# Altium schematic symbol library Full bridge-V1.00.SCHLIB: 71 symbols
Pins are listed as number, name and electrical type; pins without a type are passive.

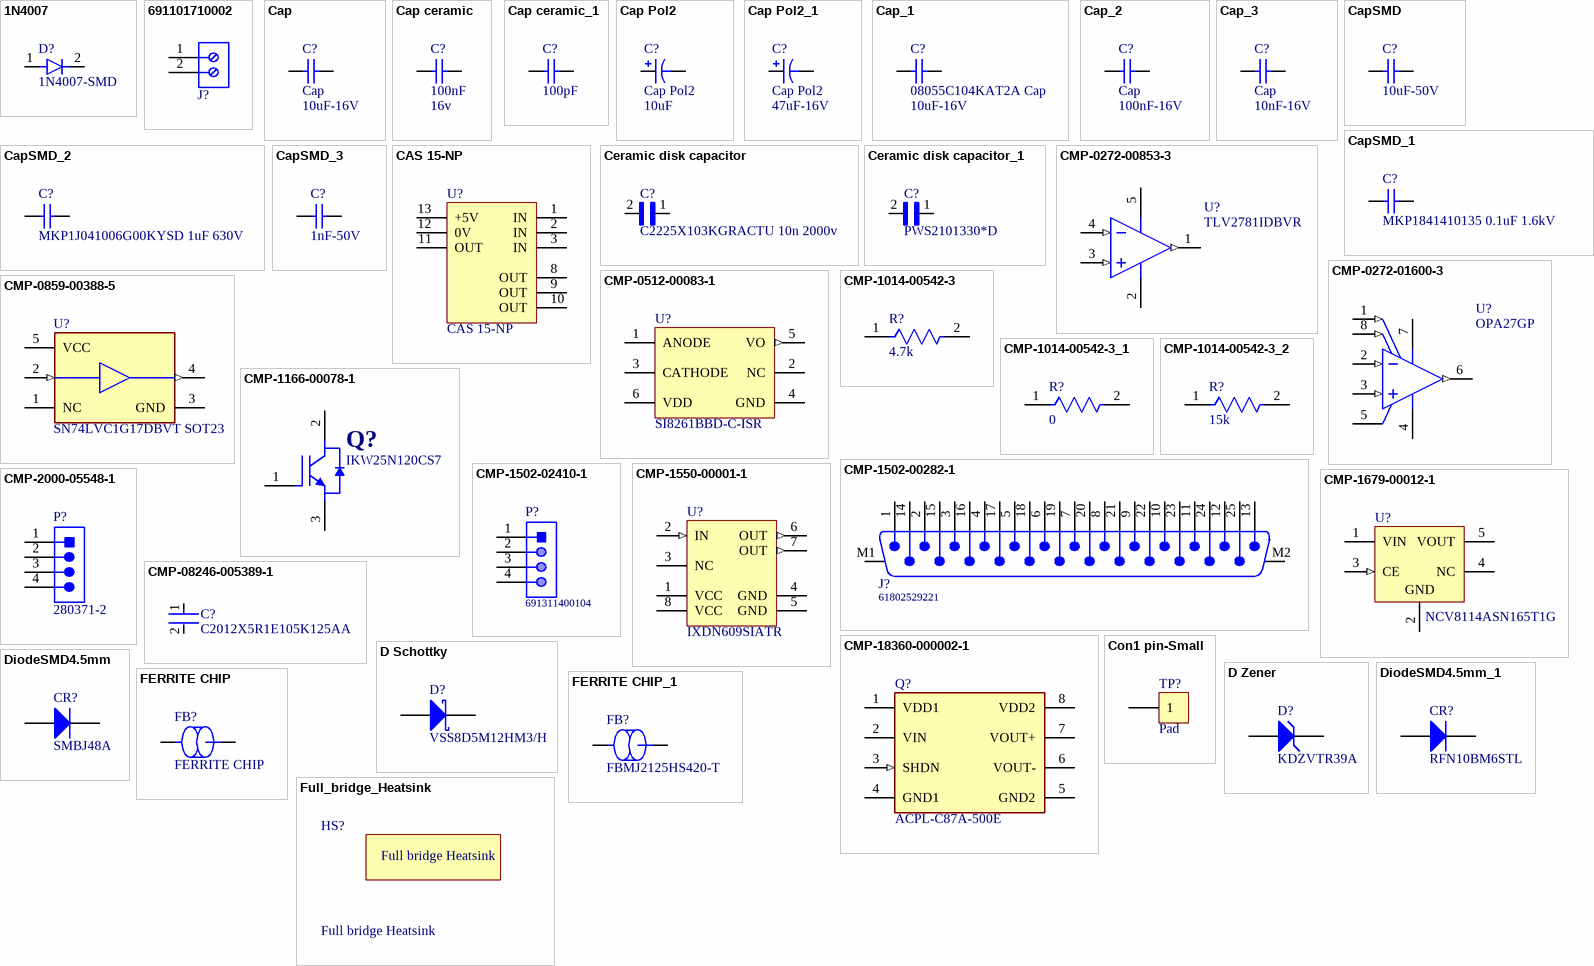
[diagram p0: symbols 1N4007 to Full_bridge_Heatsink]

## 1N4007
designator D?, comment 1N4007-SMD
Diode Standard 1000V 1A Through Hole DO-204AL _DO-41_; MF: ON Semiconductor; MP: 1N4007; Package: DO-41 Good-Ark; Value: *; Price: None; Availability: Unavailable; SnapEDA_Link: https://www.snapeda.com/parts/1N4007/ON%20Semiconductor/view-part/2816213/?ref=snap
footprint SMA (DO-214AC)
pins: 1 A, 2 C

## 691101710002
designator J?  (value not drawn)
WR-TBL Series 101 Horizontal Entry Modular, THT, pitch 5mm, 2p; Manufacturer: Wurth Elektronik; Modularity: Yes; Rated Current: 16A; Working Voltage: 250V; ComponentLink1Description: Website Link; ComponentLink1URL: https://www.we-online.com/redexpert/article/691101710002?ad; ComponentLink2Description: Datasheet Link; ComponentLink2URL: https://www.we-online.com/redexpert/spec/691101710002?ad; Manufacturer Part Number: 691101710002; Category: Terminal Blocks; Match Code: WR-TBL; Mount: Through Hole; Operating Temperature Max: 105°C; Operating Temperature Min: -40°C; Packaging: Box; Application: Pressure Clamp; Number of Pins: 2; Number of Rows: 1; Orientation: Horizontal; Pitch: 5mm
footprint 691101710002
pins: 1, 2

## Cap
designator C?  value 10uF-16V
Capacitor; Published: 8-Jun-2000; LatestRevisionDate: 17-Jul-2002; LatestRevisionNote: Re-released for DXP Platform.; PackageReference: RAD-0.3; Publisher: Altium Limited
footprint CAP 2
footprint CAP 3
footprint CAP 4.7NF 1KV
footprint CAP RAD 2
footprint SMD B
footprint C0805 (0805)
footprint SMD-CAP-0805
footprint SMD-CAP-1206
footprint SMD-CAP-1210
footprint SMD-CAP-1812
footprint SMD-CAP-5750
pins: 1, 2

## Cap ceramic
designator C?, comment Volte: 16v  (hidden comment: 100nF)
None polar capacitor; Value: 100nF
footprint My_cap100n
footprint C0805 (0805)
footprint MY_0805
footprint MY_1210
footprint MY_1310
footprint MY_1608
footprint MY_1812
footprint MY_1825
footprint MY_2012
footprint MY_2220
footprint MY_2225
footprint MY_3216
footprint MY_3225
footprint MY_4532
footprint MY_4564
footprint MY_0201
footprint MY_0402
footprint MY_0603
footprint MY_E5-7.5mm
footprint MY_E6-10mm
footprint MY_E8.4-15mm
footprint MY_2010
footprint MY_1218
footprint MY_E5-7.5mmB
pins: 1, 2

## Cap ceramic_1
designator C?, comment 100pF
None polar capacitor; Volte: 50v; Value: 100pF
footprint My_cap100n
footprint MY_1206
footprint C0805 (0805)
footprint MY_1210
footprint MY_1310
footprint MY_1608
footprint MY_1812
footprint MY_1825
footprint MY_2012
footprint MY_2220
footprint MY_2225
footprint MY_3216
footprint MY_3225
footprint MY_4532
footprint MY_4564
footprint MY_0201
footprint MY_0402
footprint MY_0603
footprint MY_E5-7.5mm
footprint MY_E6-10mm
footprint MY_E8.4-15mm
footprint MY_2010
footprint MY_1218
footprint MY_E5-7.5mmB
pins: 1, 2

## Cap Pol2
designator C?  value 10uF
Polarized Capacitor (Axial); Published: 8-Jun-2000; LatestRevisionDate: 17-Jul-2002; LatestRevisionNote: Re-released for DXP Platform.; PackageReference: POLAR0.8; Publisher: Altium Limited
footprint SMD 1812
footprint CAPAE430X565N
footprint SMD C1206
footprint SMD C2225
footprint cap 1
footprint CAP 2.2uF-450v
footprint CAP 1000u50v
footprint cap 220uf 50v
footprint CAP 470u 35v
footprint SMD B
pins: 1, 2
1 alternate drawing of the same symbol

## Cap Pol2_1
designator C?, comment Cap Pol2  value 47uF-16V
Polarized Capacitor (Axial); Published: 8-Jun-2000; LatestRevisionDate: 17-Jul-2002; LatestRevisionNote: Re-released for DXP Platform.; PackageReference: POLAR0.8; Publisher: Altium Limited
footprint SMD 1812
footprint CAPAE430X565N
footprint SMD C1206
footprint SMD C2225
footprint cap 1
footprint CAP 2.2uF-450v
footprint CAP 1000u50v
footprint cap 220uf 50v
footprint CAP 470u 35v
footprint SMD B
pins: 1, 2
1 alternate drawing of the same symbol

## Cap_1
designator C?, comment 08055C104KAT2A Cap  value 10uF-16V
Capacitor; Published: 8-Jun-2000; LatestRevisionDate: 17-Jul-2002; LatestRevisionNote: Re-released for DXP Platform.; PackageReference: RAD-0.3; Publisher: Altium Limited
footprint CAP 2
footprint CAP 3
footprint CAP 4.7NF 1KV
footprint CAP RAD 2
footprint SMD B
footprint C0805 (0805)
footprint SMD-CAP-0805
footprint SMD-CAP-1206
footprint SMD-CAP-1210
footprint SMD-CAP-1812
footprint SMD-CAP-5750
pins: 1, 2

## Cap_2
designator C?, comment Cap  value 100nF-16V
Capacitor; Published: 8-Jun-2000; LatestRevisionDate: 17-Jul-2002; LatestRevisionNote: Re-released for DXP Platform.; PackageReference: RAD-0.3; Publisher: Altium Limited
footprint CAP 2
footprint CAP 3
footprint CAP 4.7NF 1KV
footprint CAP RAD 2
footprint SMD B
footprint C0805 (0805)
footprint SMD-CAP-0805
footprint SMD-CAP-1206
footprint SMD-CAP-1210
footprint SMD-CAP-1812
footprint SMD-CAP-5750
pins: 1, 2

## Cap_3
designator C?, comment Cap  value 10nF-16V
Capacitor; Published: 8-Jun-2000; LatestRevisionDate: 17-Jul-2002; LatestRevisionNote: Re-released for DXP Platform.; PackageReference: RAD-0.3; Publisher: Altium Limited
footprint CAP 2
footprint CAP 3
footprint CAP 4.7NF 1KV
footprint CAP RAD 2
footprint SMD B
footprint C0805 (0805)
footprint SMD-CAP-0805
footprint SMD-CAP-1206
footprint SMD-CAP-1210
footprint SMD-CAP-1812
footprint SMD-CAP-5750
pins: 1, 2

## CapSMD
designator C?, comment 10uF-50V
footprint CapSMD-805
footprint CapSMD-1206
footprint CAPSMD-603
footprint CapSMD-1210
footprint CapSMD-1812
footprint C0805 (0805)
pins: 1, 2

## CapSMD_1
designator C?, comment MKP1841410135 0.1uF 1.6kV
footprint MKP1841410135
pins: 1, 2

## CapSMD_2
designator C?, comment MKP1J041006G00KYSD 1uF 630V
footprint MKP10_31x17-P27.5mm
pins: 1, 2

## CapSMD_3
designator C?, comment 1nF-50V
footprint CapSMD-805
footprint C0805 (0805)
pins: 1, 2

## CAS 15-NP
designator U?
Current Transducer, 5 V, -40 to 85 degC, 10-Pin THD, RoHS, Tray; Manufacturer: LEM; PartNumber: LTSR 15-NP; IP: 250 At; IPN: 15 At; G: 41.6 mV/A; VC: 5 V; CL: 500 pF Max.; Mounting Technology: Through Hole; ComponentLink1URL: http://www.lem.com/; ComponentLink3Description: Package Specification; DatasheetVersion: Feb-11; Packing: Tray; PackageDescription: 10-Pin THD, Body 22.2 x 9.3 mm, Height 24 mm; ComponentLink1Description: Manufacturer URL; ComponentLink3URL: http://www.lem.com/docs/products/ltsr%2015-np.pdf; Operating Temperature Range: -40 to 85 degC; ComponentLink2Description: Datasheet; ComponentLink2URL: http://www.lem.com/docs/products/ltsr%2015-np.pdf
footprint CAS 15-NP
pins: 1 IN, 2 IN, 3 IN, 8 OUT, 9 OUT, 10 OUT, 11 OUT, 12 0V, 13 +5V

## Ceramic disk capacitor
designator C?, comment C2225X103KGRACTU 10n 2000v
MF: AVX; MP: LD052C153JAB2A; Price: None; SnapEDA_Link: https://www.snapeda.com/parts/LD052C153JAB2A/AVX/view-part/2034833/?ref=snap; Package: 0805 AVX; Availability: Warning; Value: *
footprint C2225
pins: 1, 2

## Ceramic disk capacitor_1
designator C?, comment PWS2101330*D
MF: AVX; MP: LD052C153JAB2A; Price: None; SnapEDA_Link: https://www.snapeda.com/parts/LD052C153JAB2A/AVX/view-part/2034833/?ref=snap; Package: 0805 AVX; Availability: Warning; Value: *
footprint PWS2101330KD
pins: 1, 2

## CMP-0272-00853-3
designator U?, comment TLV2781IDBVR
Precision, 20 MHz, 0.9 pA Ib, RRIO, CMOS Operational Amplifier, 1.8 to 5.5 V, -40 to 125 degC, 5-pin SOT23 (DBV5), Green (RoHS & no Sb/Br); PartNumber: OPA320AIDBVR; Manufacturer: Texas Instruments; Vio (25C)(Max)(mV): 0.15; Number of Channels: 2; Slew Rate(Typ)(V/us): 10; CMRR(Min)(dB): 100; Sub Family: High Output Current Amplifier (>=50mA), Low Input Bias Current Amp (<=10pA), Low Noise Amp (<=10nV/rtHz), Low Offset Voltage Amplifier (<=500uV), Low Supply Voltage Amplifier (<=2.7V), Precision Amplifier; Total Supply Voltage(Min)(+5V is 5, +/-5V is 10): 1.8; Iq per channel(Max)(mA): 1.75; Vn at 1kHz(Typ)(nV/rtHz): 8.5; Offset Drift(Typ)(uV/C): 1.5; IIB(Max)(pA): 0.9; Total Supply Voltage(Max)(+5V is 5, +/-5V is 10): 5.5; PackageVersion: 4073253-4/K, 03/2006; Code_JEDEC: MO-178; ComponentLink2Description: Datasheet; PackageDescription: 5-Pin Plastic Small Outline, Body 1.6 x 2.9 mm, Pitch 0.95 mm; Eco-Plan: Green (RoHS & no Sb/Br); ComponentLink1Description: Manufacturer URL; Mounting Technology: Surface Mount; ComponentLink3Description: Package Specification; ComponentLink3URL: http://www.ti.com/litv/pdf/mpds018i; PackageReference: DBV0005A; ComponentLink2URL: http://www.ti.com/general/docs/lit/getliterature.tsp?genericPartNumber=OPA320&fileType=pdf; DatasheetVersion: SBOS513D; ComponentLink1URL: http://www.ti.com/
footprint DBV0005A_L (SOT23, 5-Leads, Body 3.05x1.75mm, Pitch 0.95mm, IPC High Density)
footprint DBV0005A_N (SOT23, 5-Leads, Body 3.05x1.75mm, Pitch 0.95mm, IPC Medium Density)
footprint DBV0005A_M (SOT23, 5-Leads, Body 3.05x1.75mm, Pitch 0.95mm, IPC Low Density)
pins: 1 OUT (out), 2 V- (power), 3 IN+ (in), 4 IN- (in), 5 V+ (power)

## CMP-0272-01600-3
designator U?, comment OPA27GP
Ultra-Low Noise Precision Operational Amplifier, 8 to 44 V, -40 to 85 degC, 8-pin DIP (P8), Green (RoHS & no Sb/Br); Manufacturer: Texas Instruments; Total Supply Voltage(Max)(+5V is 5, +/-5V is 10): 44; Total Supply Voltage(Min)(+5V is 5, +/-5V is 10): 8; CMRR(Min)(dB): 100; Number of Channels: 1; Slew Rate(Typ)(V/us): 1.9; Packing: TUBE; Iq per channel(Max)(mA): 5.7; Sub Family: High Supply Voltage Amplifier (>=30V), Low Noise Amp (<=10nV/rtHz), Low Offset Voltage Amplifier (<=500uV), Precision Amplifier; Vio (25C)(Max)(mV): 0.1; IIB(Max)(pA): 80000; Offset Drift(Typ)(uV/C): 0.4; Rating: Catalog; PackageReference: P0008A; ComponentLink2Description: Datasheet; ComponentLink3URL: http://www.ti.com/litv/pdf/mpdi001b; PackageVersion: 4040082/E, 04/2010; ComponentLink3Description: Package Specification; ComponentLink1URL: http://www.ti.com/; Eco-Plan: Green (RoHS & no Sb/Br); Mounting Technology: Through Hole; ComponentLink1Description: Manufacturer URL; PackageDescription: 8-Pin Plastic In-Line, Body 9.59 x 6.35 mm, Pitch 2.54 mm; PartNumber: OPA27GP; Code_JEDEC: MS-001; ComponentLink2URL: http://www.ti.com/lit/ds/symlink/opa27.pdf; DatasheetVersion: SBOS135C; GBW(Typ)(MHz): 8
footprint P0008A (DIP, 8-Leads, Body 10.15x6.6mm, Pitch 2.54mm)
pins: 1 OFFSET TRIM (in), 2 IN- (in), 3 IN+ (in), 4 VCC- (power), 5 NC, 6 OUT (out), 7 VCC+ (power), 8 OFFSET TRIM (in)

## CMP-0512-00083-1
designator U?, comment SI8261BBD-C-ISR
Led Emulator Input, 4.0 A Isolated Gate Drivers, 5 to 30 V Driver Supply, 5 kVRMS Isolation Rating, -40 to 125 degC, 6-pin SOP; Manufacturer: Silicon Labs; Overlap Protection & Dead Time Control: FALSE; Max. Prop. Delay (ns): 60; Sub-Family: ISOdrivers; Isolation Rating (Input-Output, kVrms): 5; UVLO Voltage: 8 V; 10kV surge: TRUE; Driver Supply: 5 to 30 V; ComponentLink2URL: http://www.silabs.com/Support%20Documents/TechnicalDocs/Si826x.pdf; PackageDescription: 6-Pin SDIP, Body 4.58 x 7.5 mm, Pitch 1.27 mm; ComponentLink3Description: Package Specification; Mounting Technology: Surface Mount; DatasheetVersion: Rev. 0.9; PartNumber: Si8261BBD-C-IS; ComponentLink2Description: Datasheet; ComponentLink1URL: http://www.silabs.com/; PackageReference: SDIP6; ComponentLink1Description: Manufacturer URL; ComponentLink3URL: http://www.silabs.com/Support%20Documents/TechnicalDocs/Si826x.pdf
footprint SLAB-SDIP6_N (SOP, 6-Leads, Body 7.5x4.58mm, Pitch 1.27mm, IPC Medium Density)
footprint SLAB-SDIP6_L (SOP, 6-Leads, Body 7.5x4.58mm, Pitch 1.27mm, IPC High Density)
footprint SLAB-SDIP6_M (SOP, 6-Leads, Body 7.5x4.58mm, Pitch 1.27mm, IPC Low Density)
pins: 1 ANODE "Anode of LED emulator. VO follows the signal applied to this input with respect to the CATHODE input.", 2 NC "No connect.", 3 CATHODE "Cathode of LED emulator. VO follows the signal applied to ANODE with respect to this input.", 4 GND (power) "External MOSFET source connection and ground reference for VDD. This terminal is typically connected to ground but may be tied to a negative or positive voltage.", 5 VO (out) "Output signal.", 6 VDD (power) "Output-side power supply input referenced to GND (30 V max)."

## CMP-0859-00388-5
designator U?, comment SN74LVC1G17DBVT SOT23
IC BUF NON-INVERT 5.5V SC70-5; Number of Elements: 1; Polarity: Non-Inverting; Low Level Output Current: 32mA; Propagation Delay: 11ns; Logic Function: Schmitt Trigger; Min Supply Voltage: 1.65V; Quiescent Current: 1.5uA; High Level Output Current: -32mA; Packaging: Tape and Reel; Number of Gates: 1; Number of Output Lines: 1; Package Quantity: 1; Radiation Hardening: No; Max Supply Voltage: 5.5V; Contact Plating: Gold; Number of Outputs: 1; Number of Channels: 1; Termination: SMD/SMT; REACH SVHC: No SVHC; Number of Inputs: 1; Turn-On Delay Time: 11ns; Min Operating Temperature: -40°C; Number of Bits: 1; Number of Input Lines: 1; Number of Bits per Element: 1; Case/Package: SC; Number of Pins: 5; Mount: Surface Mount; Lead Free: Lead Free; Max Operating Temperature: 125°C
footprint FP-DCK0005A-MFG
footprint FP-DCK0005A-IPC_B
footprint SOT95P280X145-5N
footprint FP-DCK0005A-IPC_A
pins: 1 NC, 2 A (in), 3 GND (power), 4 Y (out), 5 VCC (power)

## CMP-1014-00542-3
designator R?, comment 4.7k
RES Thick Film, 2kΩ, 1%, 0.25W, 100ppm/°C, 1206; Max Power Dissipation: 250mW; Voltage Rating: 200V; Resistance: 2kR; Package Quantity: 10; Height: 0.55mm; Tolerance: 1%; Number of Terminations: 2; Mount: Surface Mount; Width: 1.6mm; Length: 3.2mm; Features: Automotive AEC-Q200; Contact Plating: Tin; Number of Pins: 2; Weight: 0.000353oz; Max Operating Temperature: 155°C; Min Operating Temperature: -55°C; Termination: SMD/SMT; Temperature Coefficient: 100ppm/°C; Case Code (Imperial): 1206; Depth: 1.6mm; Military Standard: Not; Case Code (Metric): 3216; Composition: Thick Film; Power Rating: 250mW; Case/Package: 1206; Radiation Hardening: No; Packaging: Tape and Reel
footprint R0805 (0805)
footprint FP-CRCW1206-e3-IPC_C
footprint FP-CRCW1206-e3-IPC_B
footprint FP-CRCW1206-e3-MFG
pins: 1, 2

## CMP-1014-00542-3_1
designator R?, comment 0
RES Thick Film, 2kΩ, 1%, 0.25W, 100ppm/°C, 1206; Max Power Dissipation: 250mW; Voltage Rating: 200V; Resistance: 2kR; Package Quantity: 10; Height: 0.55mm; Tolerance: 1%; Number of Terminations: 2; Mount: Surface Mount; Width: 1.6mm; Length: 3.2mm; Features: Automotive AEC-Q200; Contact Plating: Tin; Number of Pins: 2; Weight: 0.000353oz; Max Operating Temperature: 155°C; Min Operating Temperature: -55°C; Termination: SMD/SMT; Temperature Coefficient: 100ppm/°C; Case Code (Imperial): 1206; Depth: 1.6mm; Military Standard: Not; Case Code (Metric): 3216; Composition: Thick Film; Power Rating: 250mW; Case/Package: 1206; Radiation Hardening: No; Packaging: Tape and Reel
footprint R0603 (0603)
footprint FP-CRCW1206-e3-IPC_C
footprint FP-CRCW1206-e3-IPC_B
footprint FP-CRCW1206-e3-MFG
pins: 1, 2

## CMP-1014-00542-3_2
designator R?, comment 15k
RES Thick Film, 2kΩ, 1%, 0.25W, 100ppm/°C, 1206; Max Power Dissipation: 250mW; Voltage Rating: 200V; Resistance: 2kR; Package Quantity: 10; Height: 0.55mm; Tolerance: 1%; Number of Terminations: 2; Mount: Surface Mount; Width: 1.6mm; Length: 3.2mm; Features: Automotive AEC-Q200; Contact Plating: Tin; Number of Pins: 2; Weight: 0.000353oz; Max Operating Temperature: 155°C; Min Operating Temperature: -55°C; Termination: SMD/SMT; Temperature Coefficient: 100ppm/°C; Case Code (Imperial): 1206; Depth: 1.6mm; Military Standard: Not; Case Code (Metric): 3216; Composition: Thick Film; Power Rating: 250mW; Case/Package: 1206; Radiation Hardening: No; Packaging: Tape and Reel
footprint R0603 (0603)
footprint FP-CRCW1206-e3-IPC_C
footprint FP-CRCW1206-e3-IPC_B
footprint FP-CRCW1206-e3-MFG
pins: 1, 2

## CMP-1166-00078-1
designator Q?, comment IKW25N120CS7
1200 V IGBT in Trench and Fieldstop Technology with Soft, Fast Recovery Anti-Parallel Diode, 80 A IC, -40 to 175 degC, PG-TO247-3-44, Tube, Green; Manufacturer: Infineon; PartNumber: IKW40N120H3; Green: TRUE; IF (max): 40 A; Eoff (typ): 1.2Â mJ; VCE(sat) (typ): 2.05Â V; VF (typ): 2.4 V; QGate (typ): 185 nC; Switching Frequency: HighSpeed3 20-100kHz; tf (typ): 16Â ns; ICpuls (max): 160 A; Eon (typ): 3.2 mJ; IC(max) @ 100degrees: 40Â A; tr (typ): 57 ns; td(off) (typ): 290 ns; IC(max) @ 25degrees: 80Â A; Qrr (typ): 1.9 uC; VCE (max): 1,200Â V; td(on) (typ): 30 ns; Irrm (typ): 12.8 A; DatasheetVersion: Rev. 1.2; ComponentLink1Description: Manufacturer URL; PackageDescription: 3-Pin Plastic (Green) Transistor Single Outline Package, 15.94 x 20.95 mm Body, 5.44 mm Pitch; ComponentLink2URL: http://www.infineon.com/dgdl/IKW40N120H3_Rev1_2G.pdf?folderId=db3a30431c69a49d011c6f86019b00a1&fileId=db3a304325305e6d012591d4832f7032; ComponentLink2Description: Datasheet; ComponentLink3URL: http://www.infineon.com/cms/packages/Leaded_and_through-hole/P-PG-TO247/P-PG-TO247-3-44.html?__locale=en; ComponentLink1URL: http://www.infineon.com/; ComponentLink3Description: Package Specification; IFpuls (max): 160 A; Packing: Tube; Mounting Technology: Through Hole; PackageReference: PG-TO247-3-44; PackageVersion: Rev. 03; Halogen-free: available
footprint PG-TO247-3
pins: 1 G, 2 C, 3 E

## CMP-1502-00282-1
designator J?, comment 61802529221
Male PCB Connector with Hex Screw WR-DSUB, Vertical, 25 pins; Manufacturer: Wurth Elektronik; Working Voltage: 125VAC; Contact Resistance: 30mOhm; Rated Current: 3A; Pin Number: 25; Publisher: WurthElektronik; Gender: Male; Orientation: Vertical; Operating Temperature: -40to85degC; Datasheet URL: https://katalog.we-online.de/em/datasheet/6180xx29221.pdf; Package Reference: 61802529221; Packaging: Tray; Mounting Technology: THT; Part Number: 61802529221; Manufacturer URL: http://www.we-online.de
footprint 61802525123
pins: 1, 2, 3, 4, 5, 6, 7, 8, 9, 10, 11, 12, 13, 14, 15, 16, 17, 18, 19, 20, 21, 22, 23, 24, 25, M1, M2

## CMP-1502-02410-1
designator P?, comment 691311400104
Serie 3114 - 7.62mm Close Vertical PCB Header WR-TBL, 4 pin; Manufacturer: Wurth Elektronik; Gender: Male; Pin Number: 4; Packaging: Box; Datasheet URL: http://katalog.we-online.de/em/datasheet/6913114001xx.pdf; Operating Temperature: -40to105degC; Package Reference: 691311400104; Mounting Technology: THT; Publisher: WurthElektronik; Pitch: 7.62mm; Manufacturer URL: http://www.we-online.de; Part Number: 691311400104
footprint 691311400104
pins: 1, 2, 3, 4

## CMP-1550-00001-1
designator U?, comment IXDN609SIATR
9-Ampere Low-Side Ultrafast MOSFET Driver, 4.5 to 35 V, 200 KOhm, -40 to 125 degC, 8-Pin SOIC (SI), RoHS, Tube; Number of Configurations: 1; VCC Max: 35 V; VCC Min: 4.5 V; ComponentLink1Description: Manufacturer URL; Temperature Max: 125 degC; Packing: Tube; RoHS: TRUE; REN Typ: 200 kOhm; ComponentLink2URL: http://www.ixysic.com/home/pdfs.nsf/www/IXD_609.pdf/$file/IXD_609.pdf; ComponentLink3Description: Package Specification; Number of Outputs: 1; ComponentLink1URL: http://www.ixys.com/; ComponentLink2Description: Datasheet; PackageDescription: 8-Pin Small Outline Integrated Circuit Package, Body 4.928 x 3.937 mm, Pitch 1.27 mm; Mounting Technology: Surface Mount; PartNumber: IXDN609SI; Temperature Min: -40 degC; ComponentLink3URL: http://www.ixysic.com/home/pdfs.nsf/www/IXD_609.pdf/$file/IXD_609.pdf
footprint IXDN609SIATR
pins: 1 VCC (power) "Supply Voltage - Provides power to the device", 2 IN (in) "Logic Input", 3 NC "Not connected", 4 GND (power) "Ground - Common ground reference for the device", 5 GND (power) "Ground - Common ground reference for the device", 6 OUT (out) "Output - Sources or sinks current to turn-on or turn-off a discrete MOSFET or IGBT", 7 OUT (out) "Output - Sources or sinks current to turn-on or turn-off a discrete MOSFET or IGBT", 8 VCC (power) "Supply Voltage - Provides power to the device"

## CMP-1679-00012-1
designator U?, comment NCV8114ASN165T1G
Low Noise Low Drop Out (LDO) Linear Voltage Regulator, 3.3 V Output Voltage, 150 mA, -40 to 85 degC, 5-Pin SOT-23 (1212-01), Pb-Free, Tape and Reel; ComponentLink2Description: Datasheet; PackageDescription: 5-Pin Small Outline Transistor, Body 2.9 x 1.65 mm, Pitch 0.95 mm; ComponentLink1Description: Manufacturer URL; DatasheetVersion: Rev. 6, 06/2005; ComponentLink2URL: http://www.onsemi.com/pub_link/Collateral/MC78PC00-D.PDF; ComponentLink1URL: http://www.onsemi.com/; PackageReference: SOT-23-5-1212-01_O
footprint TSOP-5
pins: 1 VIN (power) "Input Pin", 2 GND (power) "Ground Pin", 3 CE (in) "Chip Enable Pin", 4 NC "No Connection", 5 VOUT (power) "Output Pin"

## CMP-2000-05548-1
designator P?, comment 280371-2
Male Header, Pitch 2.54 mm, 1 x 4 Position, Height 12.8 mm, Tail Length 3.5 mm, -55 to 105 degC, RoHS, Bulk; Manufacturer: TE Connectivity; Pitch: 0.100"(2.54mm); Connector Type: Header,Shrouded; Other Names: 280371-2-ND / A106401; Number of Positions Loaded: All; Dynamic Catalog: AMPMODUModIISeries; Number of Positions: 4; 3D Model: 280371-2.pdf; Termination: Solder; Package Description: Male Header, Pitch 2.54 mm, 1 x 4 Position, Height 12.8 mm, Tail Length 3.5 mm; Datasheet Version: Rev. M1, 08/2016; Contact Mating Length: 0.260"(6.60mm); Datasheet URL: http://www.te.com/commerce/DocumentDelivery/DDEController?Action=showdoc&DocId=Customer+Drawing%7F280370%7FM1%7Fpdf%7FEnglish%7FENG_CD_280370_M1.pdf%7F280371-2; Mounting Technology: ThroughHole; Standard Package: 1,000; Contact Finish Thickness: 15µin(0.38µm); Contact Finish: Gold; Contact Type: MalePin; Packaging: Bulk; Mounting Type: ThroughHole; Number of Rows: 1; Family: RectangularConnectors-Headers,MalePins; Manufacturer URL: http://www.te.com/; Color: Black; RoHS Information: 280371-2StatementofCompliance; Package Reference: 280371-2; Category: Connectors,Interconnects; Series: AMPMODUModII
footprint TECO-280371-2_V (Male Header, 4-Leads, Body 12.7x5mm, Pitch 2.54)
pins: 1, 2, 3, 4

## CMP-08246-005389-1
designator C?, comment C2012X5R1E105K125AA
Multilayer Ceramic Capacitors 1μF ±10% 25V X5R SMD 0805; Capacitance: 1uF; Min Operating Temperature: -55°C; Construction: Flat; Package Quantity: 2000; Height: 1.25mm; Resistor Type: Ceramic; Case/Package: 0805; Depth: 1.25mm; Case Code (Metric): 2012; Weight: 0.000194oz; REACH SVHC: No SVHC; Dielectric: X5R; Max Operating Temperature: 85°C; Number of Pins: 2; Thickness: 0.057inch; RoHS Compliant: Yes; Radiation Hardening: No; Lead Free: Lead Free; Case Code (Imperial): 0805; Length: 2mm; Voltage Rating: 25V; Mount: Surface Mount; Voltage Rating (DC): 25V; Packaging: Tape and Reel; Dielectric Material: Ceramic; Termination: SMD/SMT; Voltage: 25V; Tolerance: 10%; Series: C; Width: 0.049inch
footprint C0805 (0805)
footprint FP-C2012-125-0_2-MFG
footprint FP-C2012-125-0_2-IPC_C
footprint FP-C2012-125-0_2-IPC_B
pins: 1, 2

## CMP-18360-000002-1
designator Q?, comment ACPL-C87A-500E
IC OPAMP ISOLATION 100KHZ 8SO; Turn-On Delay Time: 6500ns; Number of Circuits: 1; Forward Current: 230mA; Max Supply Voltage: 5.5V; Min Supply Voltage: 4.5V; Operating Supply Voltage: 5V; Operating Supply Current: 10.5mA; Input Offset Voltage (Vos): 300uV; Input Bias Current: 1.5nA; Nominal Supply Current: 15mA; Isolation Voltage: 5kV; Output Current per Channel: 30mA; -3db Bandwidth: 100kHz; Radiation Hardening: No; Case/Package: SOIC; Min Operating Temperature: -40°C; Number of Pins: 8; Package Quantity: 1000; Bandwidth: 100kHz; Propagation Delay: 6500ns; Packaging: Tape and Reel; Number of Channels: 1; Max Operating Temperature: 105°C; Mount: Surface Mount
footprint FP-SSO-8-MFG
footprint FP-SSO-8-IPC_C
footprint FP-SSO-8-IPC_B
footprint FP-SSO-8-IPC_A
pins: 1 VDD1 (power), 2 VIN (power), 3 SHDN (in), 4 GND1 (power), 5 GND2 (power), 6 VOUT-, 7 VOUT+, 8 VDD2 (power)

## Con1 pin-Small
designator TP?, comment Pad
footprint TP-0.5mm
pins: 1

## D Schottky
designator D?, comment VSS8D5M12HM3/H
Schottky Diode; Published: 8-Jun-2000; LatestRevisionDate: 17-Jul-2002; LatestRevisionNote: Re-released for DXP Platform.; PackageReference: SMB; Publisher: Altium Limited; PackageDescription: DO-214-AA/SMB; 2 C-Bend Leads; Body 5.3 x 3.6 mm, inc. leads (LxW); Code_JEDEC: DO-214-AA
footprint DO-221AD
simulation model SKYDIODE (Diode)
signal-integrity model D Schottky
pins: 1 A, 2 K

## D Zener
designator D?, comment KDZVTR39A
Zener Diode; Published: 8-Jun-2000; LatestRevisionDate: 17-Jul-2002; LatestRevisionNote: Re-released for DXP Platform.; PackageReference: DIODE-0.7; Publisher: Altium Limited; PackageDescription: Diode, Thru-Hole; 2 Leads; 0.7 in Pin Spacing
footprint SOD-123FL
simulation model ZENER (Diode)
signal-integrity model D Zener
pins: 1 A, 2 K

## DiodeSMD4.5mm
designator CR?, comment SMBJ48A
footprint SMB (DO-214AA)
pins: 1 A, 2 K

## DiodeSMD4.5mm_1
designator CR?, comment RFN10BM6STL
footprint RFN10BM
pins: 1 A, 2 K

## FERRITE CHIP
designator FB?
footprint SMD 1206-1
footprint L0805 (0805)
pins: 1 (power), 2 (power)

## FERRITE CHIP_1
designator FB?, comment FBMJ2125HS420-T
footprint SMD 1206-1
footprint L0805 (0805)
pins: 1 (power), 2 (power)

## Full_bridge_Heatsink
designator HS?, comment Full bridge Heatsink
footprint Full_bridge_Heatsink

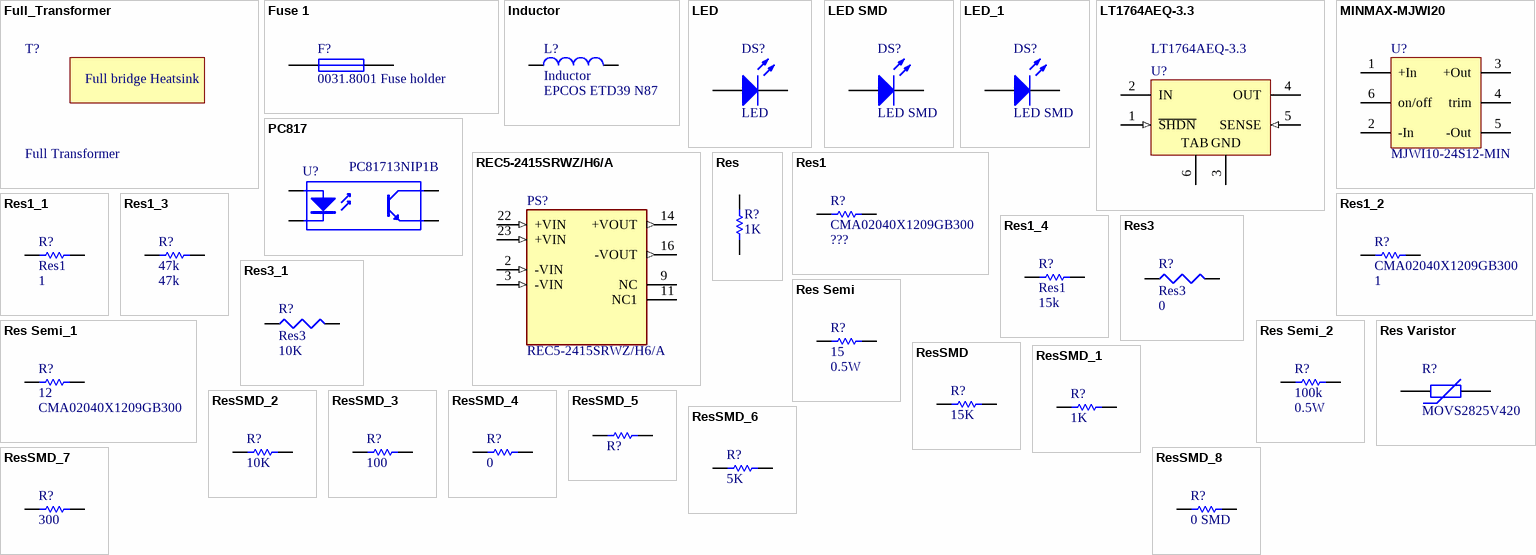
[diagram p1: symbols Full_Transformer to ResSMD_8]

## Full_Transformer
designator T?, comment Full Transformer
footprint Full_Transformer
text: Full bridge Heatsink

## Fuse 1
designator F?, comment 0031.8001 Fuse holder
Fuse; Published: 8-Jun-2000; LatestRevisionDate: 17-Jul-2002; LatestRevisionNote: Re-released for DXP Platform.; PackageReference: PIN-W2/E2.8; Publisher: Altium Limited; PackageDescription: Thru-Hole; 2 Leads
footprint 00318001
simulation model FUSE (Spice Subcircuit)
pins: 1, 2

## Inductor
designator L?  value EPCOS ETD39 N87
Code_IEC: 1005; Published: 8-Jun-2000; LatestRevisionDate: 29-May-2009; LatestRevisionNote: IPC-7351 Footprint Added.; PackageReference: 0402-A; Publisher: Altium Limited; PackageDescription: Chip Inductor; Code_JEITA: 0402
footprint FullBridge_Inductor
footprint INDC1608L (Chip Inductor, Body 1.6x0.8mm, IPC High Density)
footprint 2029 (Chip Inductor, Body 2.0x1.2mm, IPC High Density)
footprint 0603 (Chip Inductor, Body 0.6x0.3mm, IPC High Density)
footprint INDC3216 (Chip Inductor, Body 3.2x1.6mm, IPC High Density)
footprint INDC4532 (Chip Inductor, Body 4.5x3.2mm, IPC High Density)
simulation model INDUCTOR (Inductor)
signal-integrity model Inductor
pins: 1, 2

## LED
designator DS?
footprint LED0805 (LED-0805)
pins: 1 A, 2 K

## LED SMD
designator DS?
footprint LED0805 (LED-0805)
pins: 1 A, 2 K

## LED_1
designator DS?, comment LED SMD
Blue SURFACE MOUNT LED LAMP, -40 to +85 ,0805 SIZE; PART NUMBER: QTLP630C-7; MANUFACTURE: Fairchild Semiconductor
footprint LED0805 (LED-0805)
pins: 1 A, 2 K

## LT1764AEQ-3.3
designator U?
3 A, Fast Transient Response, Low Noise, LDO Regulator, 2.7 to 20 V Vin, 3.3 V Vout, 5-pin DPAK (Q-5), -40 to 125 degC; Manufacturer: Linear Technology; Discrete Pass Element: no; Dropout Voltage(V): 0.34; Iout(mA): 3000; Isupply(mA): 1; Noise(uV): 40; Output Voltage: 3.3 V; PSRR(dB): 63; Shutdown Current(uA): 0.01; Vin Max(V): 20; Vin Min(V): 2.7; DatasheetVersion: Rev. B; PackageVersion: Rev. F, 09/2011; PackageReference: Q-5; PackageDescription: 5-Pin Plastic DD Pak, Body 10.2235 x 8.89 mm, Pitch 1.702 mm; Supplier 1: Digi-Key; Supplier Part Number 1: LT1764AEQ-3.3-ND; Supplier 2: Newark; Supplier Part Number 2: 57M6104; Number of Outputs: 1; RoHS: FALSE; Mounting Technology: Surface Mount; PartNumber: LT1764AEQ-3.3; ComponentLink1Description: Manufacturer URL; ComponentLink1URL: http://www.linear.com/; ComponentLink2Description: Datasheet; ComponentLink2URL: http://cds.linear.com/docs/en/datasheet/1764afb.pdf; ComponentLink3Description: Package Specification; ComponentLink3URL: http://cds.linear.com/docs/en/packaging/Q%20DD5%2005-08-1461%20Rev%20F.pdf
footprint LT1764AEQ33TRPBF
footprint LT-Q-5_L (DPAK, 5-Leads, Body 10.22x8.89mm, Pitch 1.702mm, IPC High Density)
footprint LT-Q-5_M (DPAK, 5-Leads, Body 10.22x8.89mm, Pitch 1.702mm, IPC Low Density)
pins: 1 ~{SHDN} (in) "Shutdown. The S\H\D\N\ pin is used to put the LT1764A regulators into a low power shutdown state. The output will be off when the S\H\D\N\ pin is pulled low. The S\H\D\N\ pin can be driven either by 5V logic or (See Datasheet)", 2 IN (power) "Input. Power is supplied to the device through the IN pin. A bypass capacitor is required on this pin if the device is more than six inches away from the main input filter capacitor. In general, the output impedance of a (See Datasheet)", 3 GND (power) "Ground.", 4 OUT (power) "Output. The output supplies power to the load. A minimum output capacitor of 10uF is required to prevent oscillations. Larger output capacitors will be required for applications with large transient loads to limit peak (See Datasheet)", 5 SENSE (in) "Sense. For fixed voltage versions of the LT1764A (LT1764A-1.5/LT1764A-1.8/ LT1764A-2.5/LT1764A-3.3), the SENSE pin is the input to the error amplifier. Optimum regulation will be obtained at the point where the SENSE pin is (See Datasheet)", 6 TAB (power) "Ground."

## MINMAX-MJWI20
designator U?, comment MJWI10-24S12-MIN
footprint MJWI10-24S12
pins: 1 +In, 2 -In, 3 +Out, 4 trim, 5 -Out, 6 on/off

## PC817
designator U?, comment PC81713NIP1B
footprint SOP-4L (Small Outline; 6 Leads (1 Absent); Body Width 4.4 mm; Pitch 1.27 mm)
pins: 1 A "Anode", 2 K "Cathode", 3 E "Emitter", 4 C "Collector"

## REC5-2415SRWZ/H6/A
designator PS?
DC/DC-Converter, 2kV, 4kVDC & 6kVDC Isolation. Continuous Short Circuit Protection; Package: None; Price: None; Value: *; MP: REC5-2415SRWZ/H6/A; Availability: Unavailable
footprint REC52415SRWZH6A
pins: 2 -VIN (in), 3 -VIN (in), 9 NC, 11 NC1, 14 +VOUT (out), 16 -VOUT (out), 22 +VIN (in), 23 +VIN (in)

## Res
designator R?, comment 1K
resistor 1/4 wat; Value: 1K
footprint R0805 (0805)
footprint MY_0805
footprint MY_1210
footprint MY_1310
footprint MY_1608
footprint MY_1812
footprint MY_1825
footprint MY_2012
footprint MY_2220
footprint MY_2225
footprint MY_3216
footprint MY_3225
footprint MY_4532
footprint MY_4564
footprint MY_0201
footprint MY_0402
footprint MY_0603
footprint MY_(0.25w)_0207V
footprint MY_(0.25w)_0207_10
footprint MY_0309V
footprint MY_0309_12
footprint MY_0414V
footprint MY_0414_15
footprint MY_(0.5w)_0411V
footprint MY_(0.5w)_0411_15
footprint MY_(1w)_0613V
footprint MY_(1w)_0613_15
footprint MY_(2w)_0617V
footprint MY_(2w)_0617_22
footprint MY_(3w)_0817V
footprint MY_(3w)_0817_22
footprint MY_(5w)_0922V
footprint MY_(5w)_0922_22
footprint MY_2010
footprint MY_1218
pins: 1, 2

## Res1
designator R?, comment CMA02040X1209GB300  value ???
Resistor; Published: 8-Jun-2000; LatestRevisionDate: 17-Jul-2002; LatestRevisionNote: Re-released for DXP Platform.; PackageReference: AXIAL-0.3; Publisher: Altium Limited; PackageDescription: Axial Device, Thru-Hole; 2 Leads; 0.3 in Pin Spacing
footprint MMF50S
simulation model RESISTOR (Resistor)
signal-integrity model Res
pins: 1, 2

## Res1_1
designator R?, comment Res1  value 1
Resistor; Published: 8-Jun-2000; LatestRevisionDate: 17-Jul-2002; LatestRevisionNote: Re-released for DXP Platform.; PackageReference: AXIAL-0.3; Publisher: Altium Limited; PackageDescription: Axial Device, Thru-Hole; 2 Leads; 0.3 in Pin Spacing
footprint MELF 0204
simulation model RESISTOR (Resistor)
signal-integrity model Res
pins: 1, 2

## Res1_2
designator R?, comment CMA02040X1209GB300  value 1
Resistor; Published: 8-Jun-2000; LatestRevisionDate: 17-Jul-2002; LatestRevisionNote: Re-released for DXP Platform.; PackageReference: AXIAL-0.3; Publisher: Altium Limited; PackageDescription: Axial Device, Thru-Hole; 2 Leads; 0.3 in Pin Spacing
footprint MMF50S
simulation model RESISTOR (Resistor)
signal-integrity model Res
pins: 1, 2

## Res1_3
designator R?, comment 47k
Resistor; Published: 8-Jun-2000; LatestRevisionDate: 17-Jul-2002; LatestRevisionNote: Re-released for DXP Platform.; PackageReference: AXIAL-0.3; Publisher: Altium Limited; PackageDescription: Axial Device, Thru-Hole; 2 Leads; 0.3 in Pin Spacing; Value: 47k
footprint R0805 (0805)
simulation model RESISTOR (Resistor)
signal-integrity model Res
pins: 1, 2

## Res1_4
designator R?, comment Res1  value 15k
Resistor; Published: 8-Jun-2000; LatestRevisionDate: 17-Jul-2002; LatestRevisionNote: Re-released for DXP Platform.; PackageReference: AXIAL-0.3; Publisher: Altium Limited; PackageDescription: Axial Device, Thru-Hole; 2 Leads; 0.3 in Pin Spacing
footprint R0805 (0805)
simulation model RESISTOR (Resistor)
signal-integrity model Res
pins: 1, 2

## Res3
designator R?  value 0
Resistor; Published: 8-Jun-2000; LatestRevisionDate: 29-May-2009; LatestRevisionNote: IPC-7351 Footprint Added.; PackageReference: J1-0603; Publisher: Altium Limited; PackageDescription: Chip Resistor
footprint R0603 (0603)
footprint 14-1210 (Chip Resistor, Body 3.2x2.5mm, IPC High Density)
footprint 12Z-2010 (Chip Resistor, Body 5.0x2.5mm, IPC High Density)
footprint RESC6332 (Chip Resistor, Body 6.3x3.2mm, IPC High Density)
simulation model RESISTOR (Resistor)
signal-integrity model Res
pins: 1, 2

## Res3_1
designator R?, comment Res3  value 10K
Resistor; Published: 8-Jun-2000; LatestRevisionDate: 29-May-2009; LatestRevisionNote: IPC-7351 Footprint Added.; PackageReference: J1-0603; Publisher: Altium Limited; PackageDescription: Chip Resistor
footprint R0603 (0603)
footprint 14-1210 (Chip Resistor, Body 3.2x2.5mm, IPC High Density)
footprint 12Z-2010 (Chip Resistor, Body 5.0x2.5mm, IPC High Density)
footprint RESC6332 (Chip Resistor, Body 6.3x3.2mm, IPC High Density)
simulation model RESISTOR (Resistor)
signal-integrity model Res
pins: 1, 2

## Res Semi
designator R?, comment 15  value 0.5W
Semiconductor Resistor; Published: 8-Jun-2000; LatestRevisionDate: 17-Jul-2002; LatestRevisionNote: Re-released for DXP Platform.; PackageReference: AXIAL-0.5; Publisher: Altium Limited; PackageDescription: Axial Device, Thru-Hole; 2 Leads; 0.5 in Pin Spacing
footprint AXIAL-0.5 (Axial Device, Thru-Hole; 2 Leads; 0.5 in Pin Spacing)
simulation model RES (Semiconductor Resistor)
signal-integrity model Res Semi
pins: 1, 2

## Res Semi_1
designator R?, comment 12  value CMA02040X1209GB300
Semiconductor Resistor; Published: 8-Jun-2000; LatestRevisionDate: 17-Jul-2002; LatestRevisionNote: Re-released for DXP Platform.; PackageReference: AXIAL-0.5; Publisher: Altium Limited; PackageDescription: Axial Device, Thru-Hole; 2 Leads; 0.5 in Pin Spacing
footprint MELF 0204
simulation model RES (Semiconductor Resistor)
signal-integrity model Res Semi
pins: 1, 2

## Res Semi_2
designator R?, comment 100k  value 0.5W
Semiconductor Resistor; Published: 8-Jun-2000; LatestRevisionDate: 17-Jul-2002; LatestRevisionNote: Re-released for DXP Platform.; PackageReference: AXIAL-0.5; Publisher: Altium Limited; PackageDescription: Axial Device, Thru-Hole; 2 Leads; 0.5 in Pin Spacing
footprint AXIAL0.9-VR68
simulation model RES (Semiconductor Resistor)
signal-integrity model Res Semi
pins: 1, 2

## Res Varistor
designator R?, comment MOVS2825V420
Varistor (Voltage-Sensitive Resistor); Published: 24-Mar-1999; LatestRevisionDate: 29-May-2009; LatestRevisionNote: IPC-7351 Footprint Added.; PackageVersion: Mar-2003; PackageReference: 6-0805; Publisher: Altium Limited; PackageDescription: Chip Resistor 0805 Case Size; Code_IPC: RESC2012
footprint MOVS2825V420
footprint 6-0805_L (Chip Resistor, Body 2.0x1.2mm, IPC High Density)
footprint 6-0805_M (Chip Resistor, Body 2.0x1.2mm, IPC Low Density)
pins: 1, 2

## ResSMD
designator R?, comment 15K
footprint R0805 (0805)
pins: 1, 2

## ResSMD_1
designator R?, comment 1K
footprint ResSMD
footprint R0805 (0805)
pins: 1, 2

## ResSMD_2
designator R?, comment 10K
footprint ResSMD
footprint R0805 (0805)
pins: 1, 2

## ResSMD_3
designator R?, comment 100
footprint R0805 (0805)
pins: 1, 2

## ResSMD_4
designator R?, comment 0
footprint R0805 (0805)
pins: 1, 2

## ResSMD_5
designator R?, comment ResSMD  (value not drawn)
footprint R0805 (0805)
pins: 1, 2

## ResSMD_6
designator R?, comment 5K
footprint ResSMD
footprint R0805 (0805)
pins: 1, 2

## ResSMD_7
designator R?, comment 300
footprint R0805 (0805)
pins: 1, 2

## ResSMD_8
designator R?, comment 0 SMD
footprint R0805 (0805)
pins: 1, 2